# Altium footprint library RF.PcbLib: 1 footprints
Each footprint in its own frame and in the unit in brackets; x right, y up, seen from the top. Pads: shape width x height; smd on the part's side, far side on the other; paste and mask are expansions set on the pad; w line width, h text height; cw(c..) or ccw(c..) is an arc to the next point about the centre after c.
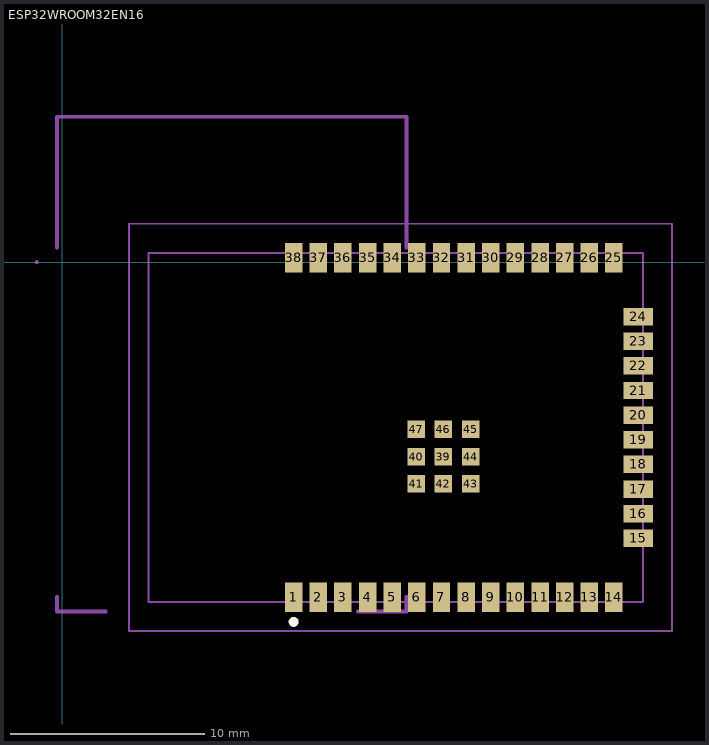
[diagram p0: the footprint, top view; thin cyan lines are the x and y axes]

## ESP32WROOM32EN16 [mil]
pads (47):
  rect 35.43x59.06 smd: 1(470,-680) 2(520,-680) 3(570,-680) 4(620,-680) 5(670,-680) 6(720,-680) 7(770,-680) 8(820,-680) 9(870,-680) 10(920,-680) 11(970,-680) 12(1020,-680) 13(1070,-680) 14(1120,-680) 25(1120,8.98) 26(1070,8.98) 27(1020,8.98) 28(970,8.98) 29(920,8.98) 30(870,8.98) 31(820,8.98) 32(770,8.98) 33(720,8.98) 34(670,8.98) 35(620,8.98) 36(570,8.98) 37(520,8.98) 38(470,8.98)
  rect 59.06x35.43 smd: 15(1169.21,-560.51) 16(1169.21,-510.51) 17(1169.21,-460.51) 18(1169.21,-410.51) 19(1169.21,-360.51) 20(1169.21,-310.51) 21(1169.21,-260.51) 22(1169.21,-210.51) 23(1169.21,-160.51) 24(1169.21,-110.51)
  rect 35.43x35.43 smd: 39(773.94,-394.57) 40(718.82,-394.57) 41(718.82,-449.68) 42(773.94,-449.68) 43(829.06,-449.68) 44(829.06,-394.57) 45(829.06,-339.45) 46(773.94,-339.45) 47(718.82,-339.45)
Top Overlay:
  circle w10: c470,-730 r5
Assembly Top:
  lines w3.94: 135.75,-748.9 1238.11,-748.9 1238.11,77.87 135.75,77.87 135.75,-748.9 ; 175.12,-689.84 1179.06,-689.84 1179.06,18.82 175.12,18.82 175.12,-689.84
Mechanical 22:
  lines w3.94: -53.15,0 cw(c-51.18,0) -49.21,0 cw(c-51.18,0) -53.15,0
  lines w7.87: -9.84,-679.53 -9.84,-709.06 88.58,-709.06 ; -9.84,29.13 -9.84,294.88 698.82,294.88 698.82,29.13 ; 600.39,-709.06 698.82,-709.06 698.82,-679.53
3D body: height 125.95, standoff 3.91, extent 173.03,-690 1176.97,18.66